# Altium schematic symbol library Inductors.SchLib: 1 symbol
Pins are listed as number, name and electrical type; pins without a type are passive.

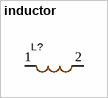
[diagram p0: symbol inductor]

## inductor
designator L?  (value not drawn)
Tolerance: ±20%; DCR: *; Voltage: *; Isat: *; Irms: *; Value: *; Package: 2016
footprint inductor_Test_footprint
footprint INDC2016X120N
pins: 1, 2